# EAGLE library part S6B-PH-KL (library con-JST-PH)
JST-PH 6-way right-angle TH
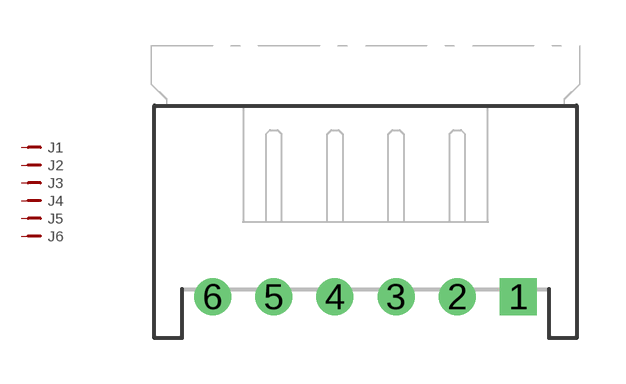
[diagram p3: symbol with the pads of S6B-PH-KL; footprint S6B-PH-KL]

Designator prefix J; gates 1=PM-N 2=PM-N 3=PM-N 4=PM-N 5=PM-N 6=PM-N

## S6B-PH-KL  [S6B-PH-KL]
1  1:1  pas
2  2:1  pas
3  3:1  pas
4  4:1  pas
5  5:1  pas
6  6:1  pas

## Footprint S6B-PH-KL (pad centres in mm)
JST-PH (2mm) 6-pin through-hole right-angle Wire-Board connector
drill 0.7 square: 1 5,-3.72
drill 0.7: 2 3,-3.72; 3 1,-3.72; 4 -1,-3.72; 5 -3,-3.72; 6 -5,-3.72